# Altium schematic symbol library P6SMB12CAT3G.SCHLIB: 1 symbol
Pins are listed as number, name and electrical type; pins without a type are passive.

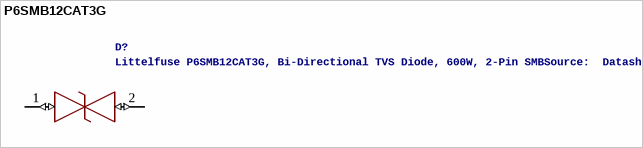
[diagram p0: symbol P6SMB12CAT3G]

## P6SMB12CAT3G
designator D?, comment Littelfuse P6SMB12CAT3G, Bi-Directional TVS Diode, 600W, 2-Pin SMBSource:  Datasheet
GateName_1: G$1; SymbolName_1: P6SMB12CAT3G; LibraryName: P6SMB12CAT3G; DeviceSetName: P6SMB12CAT3G; Package: DIONM5436X247N; Manufacturer_Name: LITTELFUSE; Manufacturer_Part_Number: P6SMB12CAT3G; RS_Part_Number: 8021522P; RS_Price-Stock: http://uk.rs-online.com/web/p/products/8021522P; Arrow_Part_Number: P6SMB12CAT3G; Arrow_Price-Stock: https://www.arrow.com/en/products/p6smb12cat3g/littelfuse; Description: Littelfuse P6SMB12CAT3G, Bi-Directional TVS Diode, 600W, 2-Pin SMB; Height: 2.47mm
footprint DIONM5436X247N
pins: 1 (io), 2 (io)